# EAGLE library part CP2104-GM (library sapphire)
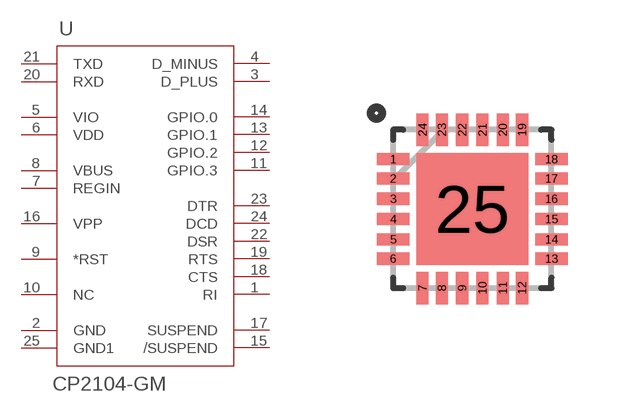
[diagram p8: symbol with the pads of QFN24_4X4; footprint QFN24_4X4]

Designator prefix -

## CP2104-GM  [QFN24_4X4]
1  RI  in
2  GND  pwr
3  D_PLUS  pas
4  D_MINUS  pas
5  VIO  pwr
6  VDD  pwr
7  REGIN  in
8  VBUS  in
9  *RST  pas
10  NC  nc
11  GPIO.3  pas
12  GPIO.2  pas
13  GPIO.1  pas
14  GPIO.0  pas
15  /SUSPEND  out
16  VPP  pas
17  SUSPEND  out
18  CTS  in
19  RTS  out
20  RXD  in
21  TXD  out
22  DSR  in
23  DTR  out
24  DCD  in
25  GND1  pas

## Footprint QFN24_4X4 (pad centres in mm)
smd 0.813 x 0.305: 1 -1.98,1.245; 2 -1.98,0.762; 3 -1.98,0.254; 4 -1.98,-0.254; 5 -1.98,-0.762; 6 -1.98,-1.245; 13 1.98,-1.245; 14 1.98,-0.762; 15 1.98,-0.254; 16 1.98,0.254; 17 1.98,0.762; 18 1.98,1.245
smd 0.305 x 0.813: 7 -1.245,-1.98; 8 -0.762,-1.98; 9 -0.254,-1.98; 10 0.254,-1.98; 11 0.762,-1.98; 12 1.245,-1.98; 19 1.245,1.98; 20 0.762,1.98; 21 0.254,1.98; 22 -0.254,1.98; 23 -0.762,1.98; 24 -1.245,1.98
smd 2.794 x 2.794: 25 0,0